# EAGLE library part GR10K (library mynixies)
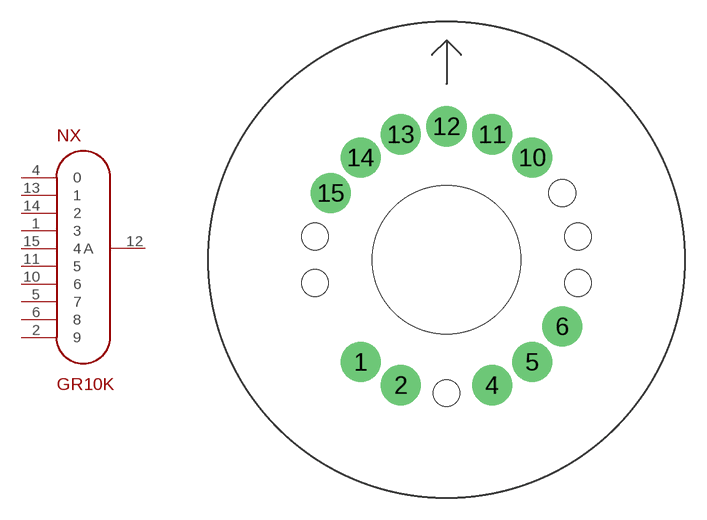
[diagram p15: symbol with the pads of GR10K; footprint GR10K]

Designator prefix NX

## GR10K  [GR10K]
1  3  pas
2  9  pas
4  0  pas
5  7  pas
6  8  pas
10  6  pas
11  5  pas
12  A  pas
13  1  pas
14  2  pas
15  4  pas

## Footprint GR10K (pad centres in mm)
drill 1.829: 1 -5.861,-6.985; 2 -3.119,-8.569; 4 3.119,-8.569; 5 5.861,-6.985; 6 7.897,-4.559; 10 5.861,6.985; 11 3.119,8.569; 12 0,9.119; 13 -3.119,8.569; 14 -5.861,6.985; 15 -7.897,4.559
hole 1.829 at 0,-9.119
hole 1.829 at 8.98,-1.583
hole 1.829 at 8.98,1.583
hole 1.829 at 7.897,4.559
hole 1.829 at -8.98,1.583
hole 1.829 at -8.98,-1.583
hole 10.16 at 0,0